# Altium footprint library mainboard.PcbLib: 70 footprints (part 3 of 5)
Each footprint in its own frame and in the unit in brackets; x right, y up, seen from the top. Pads: shape width x height; smd on the part's side, far side on the other; paste and mask are expansions set on the pad; w line width, h text height; cw(c..) or ccw(c..) is an arc to the next point about the centre after c.
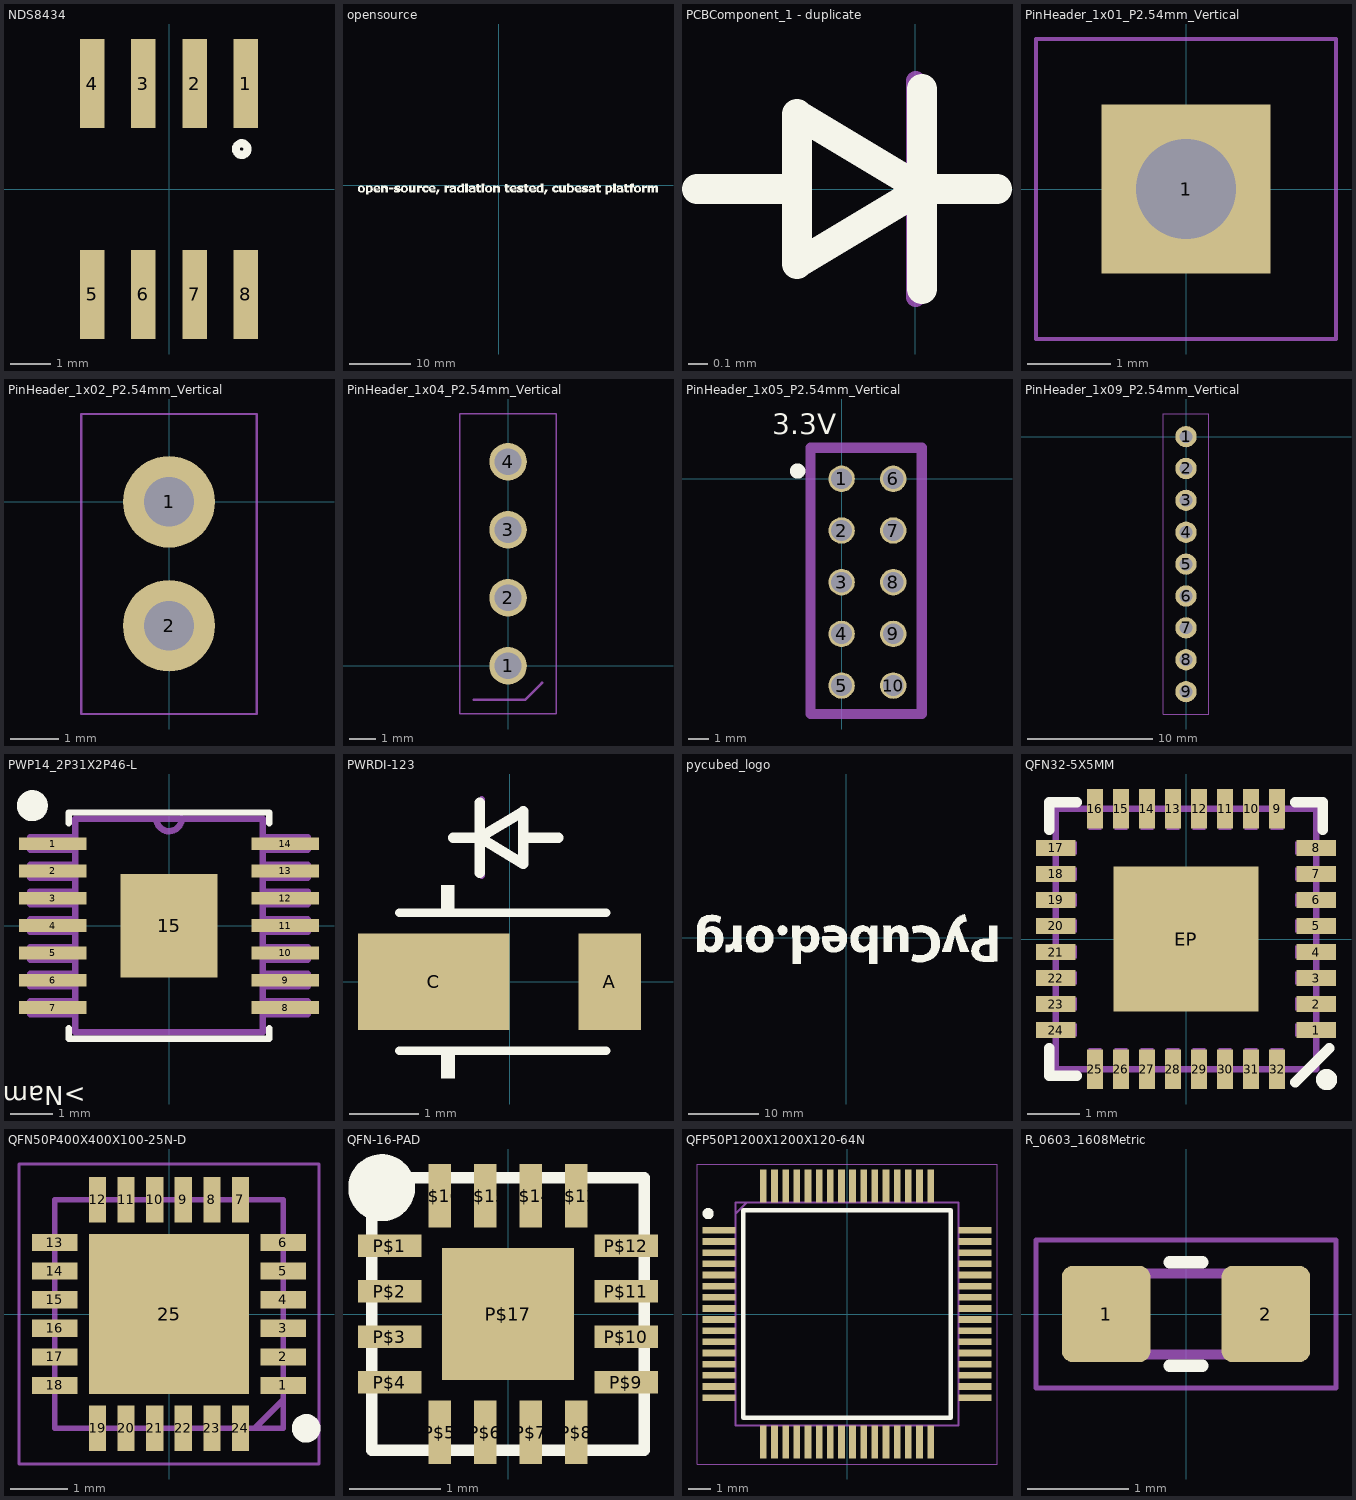
[diagram p2: the footprints below, top view; thin cyan lines are the x and y axes]

## NDS8434 [mil]
pads (8):
  rect 24x87 smd mask+2: 1(75,103) 2(25,103) 3(-25,103) 4(-75,103) 5(-75,-103) 6(-25,-103) 7(25,-103) 8(75,-103)
Top Overlay:
  circle w8: c71,39 r5.65
Mechanical 9:
  region: 68,73 82.16,73 82.16,113.22 68,113.22
  region: 18,73 32.02,73 32.02,113.05 18,113.05
  region: -32,73 -18.01,73 -18.01,113.09 -32,113.09
  region: -82,73 -68.03,73 -68.03,113.05 -82,113.05
  region: 68,-113 82.04,-113 82.04,-73.04 68,-73.04
  region: 18,-113 32.02,-113 32.02,-73.04 18,-73.04
  region: -32,-113 -18.01,-113 -18.01,-73.02 -32,-73.02
  region: -82,-113 -68.12,-113 -68.12,-73.13 -82,-73.13

## opensource [mm]
Top Overlay:
  drawing of 45 lines, arcs and shapes, not listed

## PCBComponent_1 - duplicate [mm]
Top Overlay:
  lines w0.15: -1.109,0 -0.601,0 ; 0.034,-0.508 0.034,0.508 ; 0.415,0 0.034,0 ; 0.034,0 -0.601,0.381 -0.601,-0.381 0.034,0
Mechanical 6:
  lines w0.1: -1.097,0 -0.597,0 ; 0.003,-0.55 0.003,0 ; 0.003,0.55 0.003,0 ; 0.403,0 0.003,0 ; 0.003,0 -0.597,-0.4 -0.597,0.4 0.003,0

## PinHeader_1x01_P2.54mm_Vertical [mil]
pads (1):
  rect 80x80 hole 47.24 paste-80 mask+2.5: 1(0,0)
Mechanical 4:
  lines w1.97: -70.87,-70.87 70.87,-70.87 70.87,70.87 -70.87,70.87 -70.87,-70.87
Mechanical 6:
  text "J3" at 12.73,-7.79 h35

## PinHeader_1x02_P2.54mm_Vertical [mil]
pads (2):
  round 74 hole 40 paste-74 mask+2.5: 1(0,0) 2(0,-100)
Mechanical 4:
  lines w1.97: -70.87,-171.26 70.87,-171.26 70.87,70.87 -70.87,70.87 -70.87,-171.26

## PinHeader_1x04_P2.54mm_Vertical [mm]
pads (4):
  round 1.4 hole 1 paste-1.4 mask+0.051: 1(0,0) 2(0,2.54) 3(0,5.08) 4(0,7.62)
Mechanical 3:
  lines w0.05: -1.8,-1.8 -1.8,9.4 1.8,9.4 1.8,-1.8 -1.8,-1.8
Mechanical 5:
  lines w0.1: -1.27,-1.27 0.635,-1.27 1.27,-0.635
  text "J14" at -0.323,4.154 h0.89

## PinHeader_1x05_P2.54mm_Vertical [mm]
pads (10):
  round 1.3 hole 1.016 paste-1.7 mask+0.051: 1(0,0) 2(0,-2.54) 3(0,-5.08) 4(0,-7.62) 5(0,-10.16) 6(2.54,0) 7(2.54,-2.54) 8(2.54,-5.08) 9(2.54,-7.62) 10(2.54,-10.16)
Top Overlay:
  circle w0.5: c-2.159,0.381 r0.127
  text "3.3V" at -3.403,2.185 h1
Mechanical 4:
  lines w0.5: -1.524,-11.557 -1.524,1.524 3.937,1.524 3.937,-11.557 -1.524,-11.557
Mechanical 6:
  text "J2" at 1.524,-5.334 h0.89

## PinHeader_1x09_P2.54mm_Vertical [mm]
pads (9):
  rrect100% 1.7x1.7 hole 1 paste-1.7 mask+0.051: 1(0,0) 2(0,-2.54) 3(0,-5.08) 4(0,-7.62) 5(0,-10.16) 6(0,-12.7) 7(0,-15.24) 8(0,-17.78) 9(0,-20.32)
Mechanical 4:
  lines w0.05: -1.8,-22.1 1.8,-22.1 1.8,1.8 -1.8,1.8 -1.8,-22.1
Mechanical 6:
  text "J8" at -0.323,-9.951 h0.89

## PWP14_2P31X2P46-L [mil]
pads (15):
  rect 63x12 smd mask+2.5: 1(-109,76.77) 2(-109,51.18) 3(-109,25.59) 4(-109,0) 5(-109,-25.59) 6(-109,-51.18) 7(-109,-76.77) 8(109,-76.77) 9(109,-51.18) 10(109,-25.59) 11(109,0) 12(109,25.59) 13(109,51.18) 14(109,76.77)
  rect 90.94x96.85 smd mask+2.5: 15(0,0)
Top Overlay:
  circle w15: c-128,112.4 r7
  lines w6: -94,-96 -94,-106 94,-106 94,-96 ; -94,96 -94,106 94,106 94,96
  text ">Name" at -77.8,-144.43 h30.4
Top Paste:
  region: 45.47,-48.43 -45.47,-48.43 -45.47,48.43 45.47,48.43
Mechanical 6:
  lines w6: 12,101 cw(c0,100.5) -12,100 ; -12,100 88,100 88,-100 -88,-100 -88,100 -12,100 ; -130,-83 -130,-71 -88,-71 -88,-83 -130,-83 ; -130,-57 -130,-45 -88,-45 -88,-57 -130,-57 ; -130,-32 -130,-20 -88,-20 -88,-32 -130,-32 ; -130,-6 -130,6 -88,6 -88,-6 -130,-6 ; -130,20 -130,32 -88,32 -88,20 -130,20 ; -130,45 -130,57 -89,57 -88,45 -130,45 ; -130,71 -130,83 -89,83 -88,71 -130,71 ; 88,-71 89,-83 130,-83 130,-71 88,-71 ; 88,-57 88,-45 130,-45 130,-57 88,-57 ; 88,-32 88,-20 130,-20 130,-32 88,-32 ; 88,-6 88,6 130,6 130,-6 88,-6 ; 88,20 88,32 130,32 130,20 88,20 ; 88,45 88,57 130,57 130,45 88,45 ; 88,71 88,83 130,83 130,71 88,71

## PWRDI-123 [mm]
pads (2):
  rect 0.9x1.4 smd mask+0.064: A(1.45,0)
  rect 2.2x1.4 smd mask+0.064: C(-1.1,0)
Top Overlay:
  rectangle: -0.995,-1.4 -0.795,-1
  rectangle: -1,1 -0.8,1.4
  lines w0.127: -1.6,-1 -1,-1 -0.9,-1 1.4,-1 ; -1.6,1 -1,1 -0.9,1 1.4,1
  lines w0.15: -0.818,2.091 -0.437,2.091 ; -0.437,1.583 -0.437,2.599 ; 0.198,2.091 0.706,2.091 ; -0.437,2.091 0.198,2.472 0.198,1.71 -0.437,2.091
Mechanical 6:
  lines w0.1: -0.806,2.091 -0.406,2.091 ; -0.406,1.541 -0.406,2.091 ; -0.406,2.641 -0.406,2.091 ; 0.194,2.091 0.694,2.091 ; -0.406,2.091 0.194,1.691 0.194,2.491 -0.406,2.091

## pycubed_logo [mm]
Top Overlay:
  drawing of 11 lines, arcs and shapes, not listed

## QFN32-5X5MM [mil]
pads (33):
  rect 30x12 smd mask+2.5: 1(98.43,-68.9) 2(98.43,-49.21) 3(98.43,-29.53) 4(98.43,-9.84) 5(98.43,9.84) 6(98.43,29.53) 7(98.43,49.21) 8(98.43,68.9) 17(-98.43,68.9) 18(-98.43,49.21) 19(-98.43,29.53) 20(-98.43,9.84) 21(-98.43,-9.84) 22(-98.43,-29.53) 23(-98.43,-49.21) 24(-98.43,-68.9)
  rect 12x30 smd mask+2.5: 9(68.9,98.43) 10(49.21,98.43) 11(29.53,98.43) 12(9.84,98.43) 13(-9.84,98.43) 14(-29.53,98.43) 15(-49.21,98.43) 16(-68.9,98.43) 25(-68.9,-98.43) 26(-49.21,-98.43) 27(-29.53,-98.43) 28(-9.84,-98.43) 29(9.84,-98.43) 30(29.53,-98.43) 31(49.21,-98.43) 32(68.9,-98.43)
  rect 110x110 smd paste-110 mask+2.5: EP(0,0)
Top Overlay:
  circle w8: c106.3,-106.3 r4
  lines w8: -103.43,-82.68 -103.43,-103.43 -82.68,-103.43 ; -103.43,82.68 -103.43,103.43 -82.68,103.43 ; 82.68,-108.43 108.43,-82.68 ; 82.68,103.43 103.43,103.43 103.43,82.68
Top Paste:
  region: -57.09,5.91 -5.91,5.91 -5.91,57.09 -57.09,57.09
  region: 5.91,5.91 57.09,5.91 57.09,57.09 5.91,57.09
  region: -57.09,-57.09 -5.91,-57.09 -5.91,-5.91 -57.09,-5.91
  region: 5.91,-57.09 57.09,-57.09 57.09,-5.91 5.91,-5.91
Mechanical 5:
  region: 64.17,82.68 73.62,82.68 73.62,98.43 64.17,98.43
  region: 44.49,82.68 53.94,82.68 53.94,98.43 44.49,98.43
  region: 24.8,82.68 34.25,82.68 34.25,98.43 24.8,98.43
  region: -73.62,82.68 -64.17,82.68 -64.17,98.43 -73.62,98.43
  region: -53.94,82.68 -44.49,82.68 -44.49,98.43 -53.94,98.43
  region: -34.25,82.68 -24.8,82.68 -24.8,98.43 -34.25,98.43
  region: -14.57,82.68 -5.12,82.68 -5.12,98.43 -14.57,98.43
  region: 5.12,82.68 14.57,82.68 14.57,98.43 5.12,98.43
  region: 82.68,-73.62 98.43,-73.62 98.43,-64.17 82.68,-64.17
  region: 82.68,-53.94 98.43,-53.94 98.43,-44.49 82.68,-44.49
  region: 82.68,-34.25 98.43,-34.25 98.43,-24.8 82.68,-24.8
  region: 82.68,64.17 98.43,64.17 98.43,73.62 82.68,73.62
  region: 82.68,44.49 98.43,44.49 98.43,53.94 82.68,53.94
  region: 82.68,24.8 98.43,24.8 98.43,34.25 82.68,34.25
  region: 82.68,5.12 98.43,5.12 98.43,14.57 82.68,14.57
  region: 82.68,-14.57 98.43,-14.57 98.43,-5.12 82.68,-5.12
  region: -98.43,64.17 -82.68,64.17 -82.68,73.62 -98.43,73.62
  region: -98.43,44.49 -82.68,44.49 -82.68,53.94 -98.43,53.94
  region: -98.43,24.8 -82.68,24.8 -82.68,34.25 -98.43,34.25
  region: -98.43,-73.62 -82.68,-73.62 -82.68,-64.17 -98.43,-64.17
  region: -98.43,-53.94 -82.68,-53.94 -82.68,-44.49 -98.43,-44.49
  region: -98.43,-34.25 -82.68,-34.25 -82.68,-24.8 -98.43,-24.8
  region: -98.43,-14.57 -82.68,-14.57 -82.68,-5.12 -98.43,-5.12
  region: -98.43,5.12 -82.68,5.12 -82.68,14.57 -98.43,14.57
  region: -73.62,-98.43 -64.17,-98.43 -64.17,-82.68 -73.62,-82.68
  region: -53.94,-98.43 -44.49,-98.43 -44.49,-82.68 -53.94,-82.68
  region: -34.25,-98.43 -24.8,-98.43 -24.8,-82.68 -34.25,-82.68
  region: 64.17,-98.43 73.62,-98.43 73.62,-82.68 64.17,-82.68
  region: 44.49,-98.43 53.94,-98.43 53.94,-82.68 44.49,-82.68
  region: 24.8,-98.43 34.25,-98.43 34.25,-82.68 24.8,-82.68
  region: 5.12,-98.43 14.57,-98.43 14.57,-82.68 5.12,-82.68
  region: -14.57,-98.43 -5.12,-98.43 -5.12,-82.68 -14.57,-82.68
  lines w5: -98.43,-98.43 98.43,-98.43 98.43,98.43 -98.43,98.43 -98.43,-98.43

## QFN50P400X400X100-25N-D [mm]
pads (25):
  rect 0.8x0.3 smd mask+0.051: 1(2,-1.25) 2(2,-0.75) 3(2,-0.25) 4(2,0.25) 5(2,0.75) 6(2,1.25) 13(-2,1.25) 14(-2,0.75) 15(-2,0.25) 16(-2,-0.25) 17(-2,-0.75) 18(-2,-1.25)
  rect 0.3x0.8 smd mask+0.051: 7(1.25,2) 8(0.75,2) 9(0.25,2) 10(-0.25,2) 11(-0.75,2) 12(-1.25,2) 19(-1.25,-2) 20(-0.75,-2) 21(-0.25,-2) 22(0.25,-2) 23(0.75,-2) 24(1.25,-2)
  rect 2.8x2.8 smd mask+0.051: 25(0,0)
Top Overlay:
  circle w0.25: c2.4,-2 r0.125
Mechanical 3:
  lines w0.05: -2.625,-2.625 2.625,-2.625 2.625,2.625 -2.625,2.625 -2.625,-2.625
Mechanical 5:
  lines w0.1: 1.5,-2 2,-1.5 ; -2,-2 2,-2 2,2 -2,2 -2,-2
  text "U17" at 0.382,0.251 h0.89

## QFN-16-PAD [mm]
pads (17):
  rect 0.7x0.25 smd mask+0.064: P$1(-1.3,0.75) P$2(-1.3,0.25) P$3(-1.3,-0.25) P$4(-1.3,-0.75) P$9(1.3,-0.75) P$10(1.3,-0.25) P$11(1.3,0.25) P$12(1.3,0.75)
  rect 0.25x0.7 smd mask+0.064: P$5(-0.75,-1.3) P$6(-0.25,-1.3) P$7(0.25,-1.3) P$8(0.75,-1.3) P$13(0.75,1.3) P$14(0.25,1.3) P$15(-0.25,1.3) P$16(-0.75,1.3)
  rect 1.45x1.45 smd mask+0.064: P$17(0,0)
Top Overlay:
  circle w0.381: c-1.389,1.389 r0.178
  lines w0.127: -1.5,-1.5 1.5,-1.5 1.5,1.5 -1.5,1.5 -1.5,-1.5

## QFP50P1200X1200X120-64N [mm]
pads (64):
  rect 1.475x0.3 smd mask+0.051: 1(-5.738,3.75) 2(-5.738,3.25) 3(-5.738,2.75) 4(-5.738,2.25) 5(-5.738,1.75) 6(-5.738,1.25) 7(-5.738,0.75) 8(-5.738,0.25) 9(-5.738,-0.25) 10(-5.738,-0.75) 11(-5.738,-1.25) 12(-5.738,-1.75) 13(-5.738,-2.25) 14(-5.738,-2.75) 15(-5.738,-3.25) 16(-5.738,-3.75) 33(5.738,-3.75) 34(5.738,-3.25) 35(5.738,-2.75) 36(5.738,-2.25) 37(5.738,-1.75) 38(5.738,-1.25) 39(5.738,-0.75) 40(5.738,-0.25) 41(5.738,0.25) 42(5.738,0.75) 43(5.738,1.25) 44(5.738,1.75) 45(5.738,2.25) 46(5.738,2.75) 47(5.738,3.25) 48(5.738,3.75)
  rect 0.3x1.475 smd mask+0.051: 17(-3.75,-5.738) 18(-3.25,-5.738) 19(-2.75,-5.738) 20(-2.25,-5.738) 21(-1.75,-5.738) 22(-1.25,-5.738) 23(-0.75,-5.738) 24(-0.25,-5.738) 25(0.25,-5.738) 26(0.75,-5.738) 27(1.25,-5.738) 28(1.75,-5.738) 29(2.25,-5.738) 30(2.75,-5.738) 31(3.25,-5.738) 32(3.75,-5.738) 49(3.75,5.738) 50(3.25,5.738) 51(2.75,5.738) 52(2.25,5.738) 53(1.75,5.738) 54(1.25,5.738) 55(0.75,5.738) 56(0.25,5.738) 57(-0.25,5.738) 58(-0.75,5.738) 59(-1.25,5.738) 60(-1.75,5.738) 61(-2.25,5.738) 62(-2.75,5.738) 63(-3.25,5.738) 64(-3.75,5.738)
Top Overlay:
  circle w0.25: c-6.225,4.5 r0.125
  lines w0.2: -4.65,-4.65 -4.65,4.65 4.65,4.65 4.65,-4.65 -4.65,-4.65
Mechanical 4:
  lines w0.05: -6.725,-6.725 -6.725,6.725 6.725,6.725 6.725,-6.725 -6.725,-6.725
Mechanical 6:
  lines w0.1: -5,4.5 -4.5,5 ; -5,-5 -5,5 5,5 5,-5 -5,-5
  text "U2" at -0.245,-0.252 h0.89

## R_0603_1608Metric [mm]
pads (2):
  rrect25% 0.875x0.95 smd mask+0.051: 1(-0.787,0) 2(0.787,0)
Top Overlay:
  lines w0.12: -0.163,-0.51 0.163,-0.51 ; -0.163,0.51 0.163,0.51
Mechanical 4:
  lines w0.05: -1.48,-0.73 1.48,-0.73 1.48,0.73 -1.48,0.73 -1.48,-0.73
Mechanical 6:
  lines w0.1: -0.8,-0.4 0.8,-0.4 0.8,0.4 -0.8,0.4 -0.8,-0.4
  text "R6" at 0.234,0.251 h0.89